# EAGLE library part RN4020 (library stepOSP)
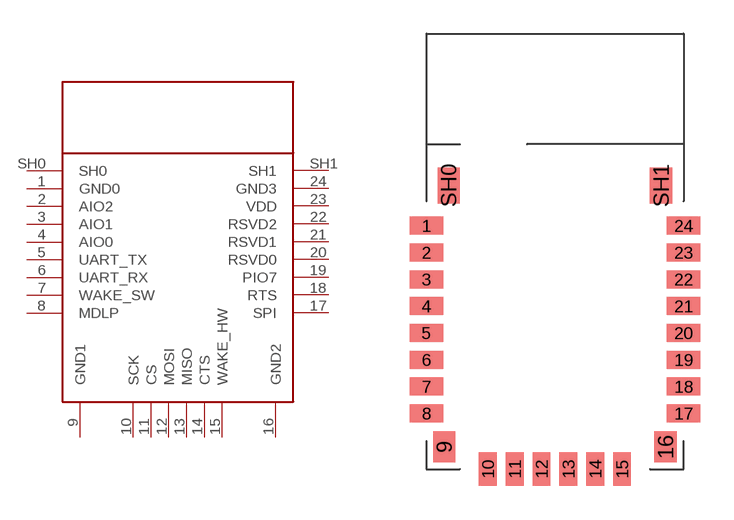
[diagram p17: symbol with the pads of RN4020; footprint RN4020]

Designator prefix -

## RN4020  [RN4020]
1  GND0
2  AIO2
3  AIO1
4  AIO0
5  UART_TX
6  UART_RX
7  WAKE_SW
8  MDLP
9  GND1
10  SCK
11  CS
12  MOSI
13  MISO
14  CTS
15  WAKE_HW
16  GND2
17  SPI
18  RTS
19  PIO7
20  RSVD0
21  RSVD1
22  RSVD2
23  VDD
24  GND3
SH0  SH0
SH1  SH1

## Footprint RN4020 (pad centres in mm)
smd 1.5 x 0.8: 1 0,10.9; 2 0,9.7; 3 0,8.5; 4 0,7.3; 5 0,6.1; 6 0,4.9; 7 0,3.7; 8 0,2.5; 17 11.5,2.5; 18 11.5,3.7; 19 11.5,4.9; 20 11.5,6.1; 21 11.5,7.3; 22 11.5,8.5; 23 11.5,9.7; 24 11.5,10.9
smd 1 x 1.4: 9 0.8,1; 16 10.7,1
smd 0.8 x 1.5: 10 2.75,0; 11 3.95,0; 12 5.15,0; 13 6.35,0; 14 7.55,0; 15 8.75,0
smd 1 x 1.6: SH0 1,12.7; SH1 10.5,12.7